# EAGLE library part TVP5150AM1IPBSR (library Air_Link)
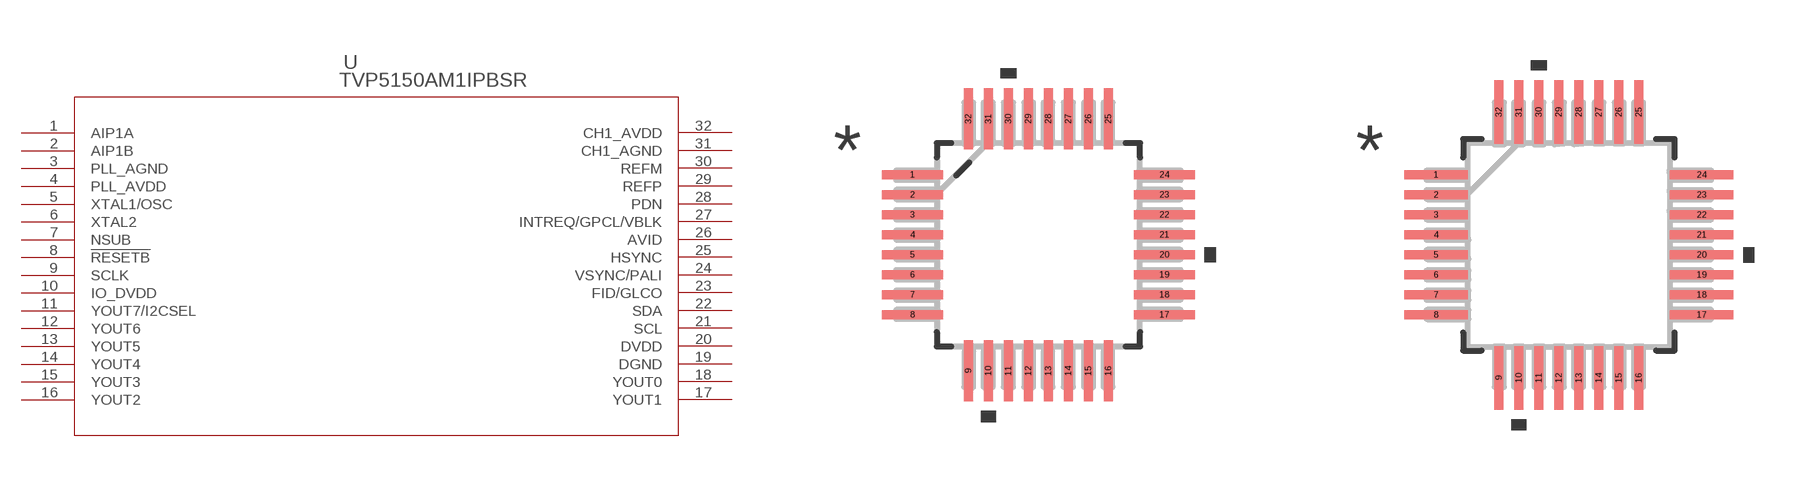
[diagram p5: symbol with the pads of PBS32; footprints PBS32, PBS32-M]

Designator prefix U

## TVP5150AM1IPBSR (COPYRIGHT: Copyright (C) 2025 Ultra Librarian. All rights reserved.; MANUFACTURER_PART_NUMBER: TVP5150AM1IPBSR; MFR_NAME: Texas Instruments)  [PBS32]
1  AIP1A  in
2  AIP1B  in
3  PLL_AGND  pwr
4  PLL_AVDD  pwr
5  XTAL1/OSC  in
6  XTAL2  out
7  NSUB  in
8  !RESETB  in
9  SCLK  out
10  IO_DVDD  pwr
11  YOUT7/I2CSEL
12  YOUT6  out
13  YOUT5  out
14  YOUT4  out
15  YOUT3  out
16  YOUT2  out
17  YOUT1  out
18  YOUT0  out
19  DGND  pwr
20  DVDD  pwr
21  SCL
22  SDA
23  FID/GLCO  out
24  VSYNC/PALI  out
25  HSYNC  out
26  AVID  out
27  INTREQ/GPCL/VBLK
28  PDN  in
29  REFP  in
30  REFM  in
31  CH1_AGND  in
32  CH1_AVDD  in

## TVP5150AM1IPBSRPBS32-M (COPYRIGHT: Copyright (C) 2025 Ultra Librarian. All rights reserved.; MANUFACTURER_PART_NUMBER: TVP5150AM1IPBSR; MFR_NAME: Texas Instruments)  [PBS32-M]
Pads as for PBS32

## TVP5150AM1IPBSRPBS32-L (COPYRIGHT: Copyright (C) 2025 Ultra Librarian. All rights reserved.; MANUFACTURER_PART_NUMBER: TVP5150AM1IPBSR; MFR_NAME: Texas Instruments)  [PBS32-L]
Pads as for PBS32

## Footprint PBS32 (pad centres in mm)
smd 1.524 x 0.229: 1 -3.15,1.75; 2 -3.15,1.25; 3 -3.15,0.75; 4 -3.15,0.25; 5 -3.15,-0.25; 6 -3.15,-0.75; 7 -3.15,-1.25; 8 -3.15,-1.75; 17 3.15,-1.75; 18 3.15,-1.25; 19 3.15,-0.75; 20 3.15,-0.25; 21 3.15,0.25; 22 3.15,0.75; 23 3.15,1.25; 24 3.15,1.75
smd 0.229 x 1.524: 9 -1.75,-3.15; 10 -1.25,-3.15; 11 -0.75,-3.15; 12 -0.25,-3.15; 13 0.25,-3.15; 14 0.75,-3.15; 15 1.25,-3.15; 16 1.75,-3.15; 25 1.75,3.15; 26 1.25,3.15; 27 0.75,3.15; 28 0.25,3.15; 29 -0.25,3.15; 30 -0.75,3.15; 31 -1.25,3.15; 32 -1.75,3.15

## Footprint PBS32-M (pad centres in mm)
smd 1.587 x 0.229: 1 -3.321,1.75; 2 -3.321,1.25; 3 -3.321,0.75; 4 -3.321,0.25; 5 -3.321,-0.25; 6 -3.321,-0.75; 7 -3.321,-1.25; 8 -3.321,-1.75; 17 3.321,-1.75; 18 3.321,-1.25; 19 3.321,-0.75; 20 3.321,-0.25; 21 3.321,0.25; 22 3.321,0.75; 23 3.321,1.25; 24 3.321,1.75
smd 0.229 x 1.587: 9 -1.75,-3.321; 10 -1.25,-3.321; 11 -0.75,-3.321; 12 -0.25,-3.321; 13 0.25,-3.321; 14 0.75,-3.321; 15 1.25,-3.321; 16 1.75,-3.321; 25 1.75,3.321; 26 1.25,3.321; 27 0.75,3.321; 28 0.25,3.321; 29 -0.25,3.321; 30 -0.75,3.321; 31 -1.25,3.321; 32 -1.75,3.321

## Footprint PBS32-L (pad centres in mm)
smd 1.118 x 0.178: 1 -3.15,1.75; 2 -3.15,1.25; 3 -3.15,0.75; 4 -3.15,0.25; 5 -3.15,-0.25; 6 -3.15,-0.75; 7 -3.15,-1.25; 8 -3.15,-1.75; 17 3.15,-1.75; 18 3.15,-1.25; 19 3.15,-0.75; 20 3.15,-0.25; 21 3.15,0.25; 22 3.15,0.75; 23 3.15,1.25; 24 3.15,1.75
smd 0.178 x 1.118: 9 -1.75,-3.15; 10 -1.25,-3.15; 11 -0.75,-3.15; 12 -0.25,-3.15; 13 0.25,-3.15; 14 0.75,-3.15; 15 1.25,-3.15; 16 1.75,-3.15; 25 1.75,3.15; 26 1.25,3.15; 27 0.75,3.15; 28 0.25,3.15; 29 -0.25,3.15; 30 -0.75,3.15; 31 -1.25,3.15; 32 -1.75,3.15